# EAGLE library part LTC3454 (library PowerProducts)
1A Synchronous Buck-Boost High Current LED Driver
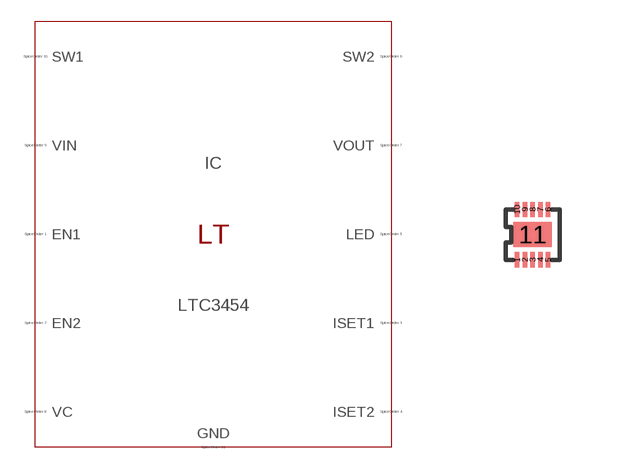
[diagram p193: symbol with the pads of DFN10(DD); footprint DFN10(DD)]

Designator prefix IC

## LTC3454 (SPICEMODEL: LTC3454.sub; SPICEPREFIX: X; VALUE2: LTC3454)  [DFN10(DD)]
1  EN1  pas
2  EN2  pas
3  ISET1  pas
4  ISET2  pas
5  LED  pas
6  SW2  pas
7  VOUT  pas
8  VC  pas
9  VIN  pas
10  SW1  pas
11  GND  pas

## Footprint DFN10(DD) (pad centres in mm)
Package generated from: DFN10(DD).asc (!PADS-POWERPCB-V9.3-BASIC! DESIGN DATABASE ASCII FILE 1.0) with :import-pads-powerpcb-v5.ulp Version 1.0.1 at 04.10.2012 14:11:16
smd 0.116 x 0.387: 1 -0.387,-0.629; 2 -0.194,-0.629; 3 0,-0.629; 4 0.194,-0.629; 5 0.387,-0.629; 6 0.387,0.629; 7 0.194,0.629; 8 0,0.629; 9 -0.194,0.629; 10 -0.387,0.629
smd 0.968 x 0.629: 11 0,0